# EAGLE library part 61301415721 (library Board_to_Board_Connectors_rev15d)
WR-PHD 2.54mm Socket Header Bottom Entry, 14 Pins =>Code : Con_BTB_SHD_2.54_1_THT_61301415721 <http://katalog.we-online.de/media/images/eican/Con_BTB_SHD_2.54_1_THT_6130xx15721_pf2.jpg> Details see: http://katalog.we-online.de/en/em/613_0xx_157_21 Created 2014-05-30, Karrer Zheng 2014 (C) Würth Elektronik
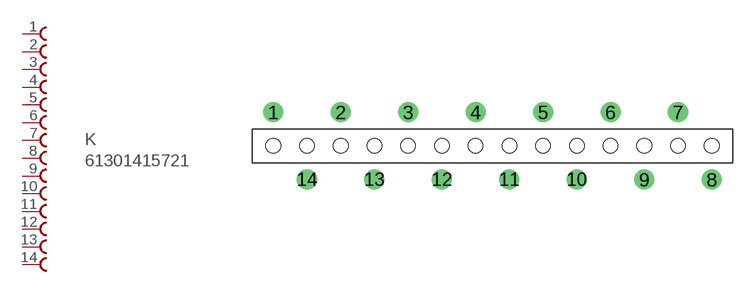
[diagram p155: symbol with the pads of 61301415721; footprint 61301415721]

Designator prefix K

## 61301415721  [61301415721]
1  1  pas
2  2  pas
3  3  pas
4  4  pas
5  5  pas
6  6  pas
7  7  pas
8  8  pas
9  9  pas
10  10  pas
11  11  pas
12  12  pas
13  13  pas
14  14  pas

## Footprint 61301415721 (pad centres in mm)
WR-PHD 2.54mm Socket Header Bottom Entry, 14 Pins
drill 1: 1 -16.51,2.54; 2 -11.43,2.54; 3 -6.35,2.54; 4 -1.27,2.54; 5 3.81,2.54; 6 8.89,2.54; 7 13.97,2.54; 8 16.51,-2.54; 9 11.43,-2.54; 10 6.35,-2.54; 11 1.27,-2.54; 12 -3.81,-2.54; 13 -8.89,-2.54; 14 -13.97,-2.54
hole 1.1 at -16.51,0
hole 1.1 at -13.97,0
hole 1.1 at -11.43,0
hole 1.1 at -8.89,0
hole 1.1 at -6.35,0
hole 1.1 at -3.81,0
hole 1.1 at -1.27,0
hole 1.1 at 1.27,0
hole 1.1 at 3.81,0
hole 1.1 at 6.35,0
hole 1.1 at 8.89,0
hole 1.1 at 11.43,0
hole 1.1 at 13.97,0
hole 1.1 at 16.51,0